# Altium schematic symbol library Socket 9.SchLib: 1 symbol
Pins are listed as number, name and electrical type; pins without a type are passive.

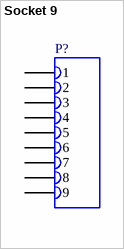
[diagram p0: symbol Socket 9]

## Socket 9
designator P?
Socket, 9-Pin
pins: 1, 2, 3, 4, 5, 6, 7, 8, 9